# Altium footprint library SlideSwitch.PcbLib: 1 footprints
Each footprint in its own frame and in the unit in brackets; x right, y up, seen from the top. Pads: shape width x height; smd on the part's side, far side on the other; paste and mask are expansions set on the pad; w line width, h text height; cw(c..) or ccw(c..) is an arc to the next point about the centre after c.
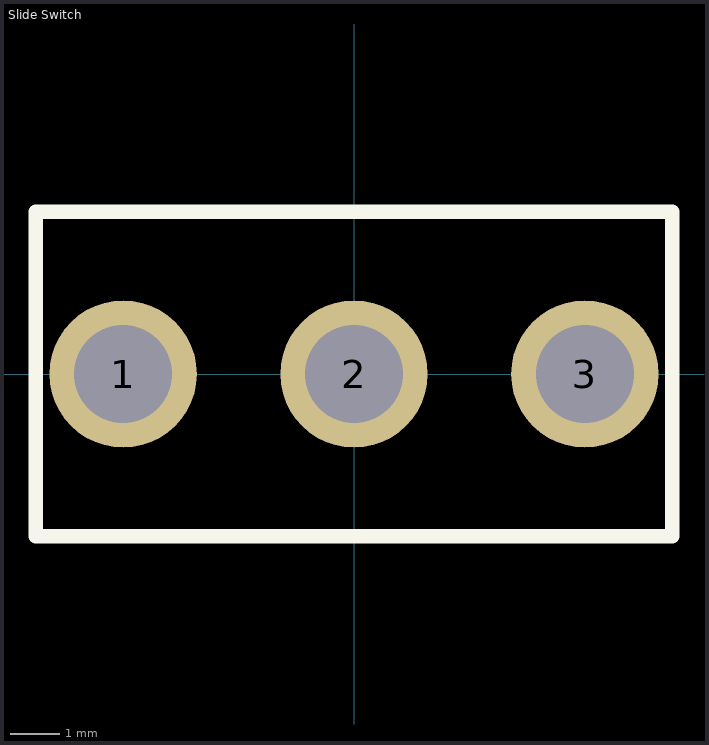
[diagram p0: the footprint, top view; thin cyan lines are the x and y axes]

## Slide Switch [mm] "SWITCH SS-12D10"
height 7
pads (3):
  round 3 hole 2 mask+0.1: 1(-4.7,0) 2(0,0) 3(4.7,0)
Top Overlay:
  lines w0.3: 6.477,-3.302 -6.477,-3.302 -6.477,3.302 6.477,3.302 6.477,-3.298
Mechanical 2:
  lines w0.05: 6.477,-3.302 -6.477,-3.302 -6.477,3.302 6.477,3.302 6.477,-3.298
3D body "SS-12D10L4.STEP": height 10.6, standoff -6.5, extent -6.5,-3.4 6.5,3.4